# Altium schematic symbol library NSD15-12S12.SchLib: 1 symbol
Pins are listed as number, name and electrical type; pins without a type are passive.

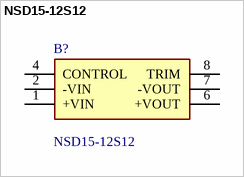
[diagram p0: symbol NSD15-12S12]

## NSD15-12S12
designator B?
Isolated DC/DC Converters 15W 12V/1.25A W/EMI FILTER; Manufacturer_Name: Mean Well; Geometry.Height: 9.82mm; Mouser Part Number: 709-NSD15-12S12; Mouser Price/Stock: https://www.mouser.co.uk/ProductDetail/MEAN-WELL/NSD15-12S12?qs=l0g2inPJSHOlwI9uYxJDvg%3D%3D; Manufacturer_Part_Number: NSD15-12S12; Datasheet Link: https://www.meanwellusa.com/webapp/product/search.aspx?prod=NSD15-S
footprint NSD1512S12
pins: 1 +VIN, 2 -VIN, 4 CONTROL, 6 +VOUT, 7 -VOUT, 8 TRIM